# EAGLE library part RB1-125BAG1A (library Connectors)
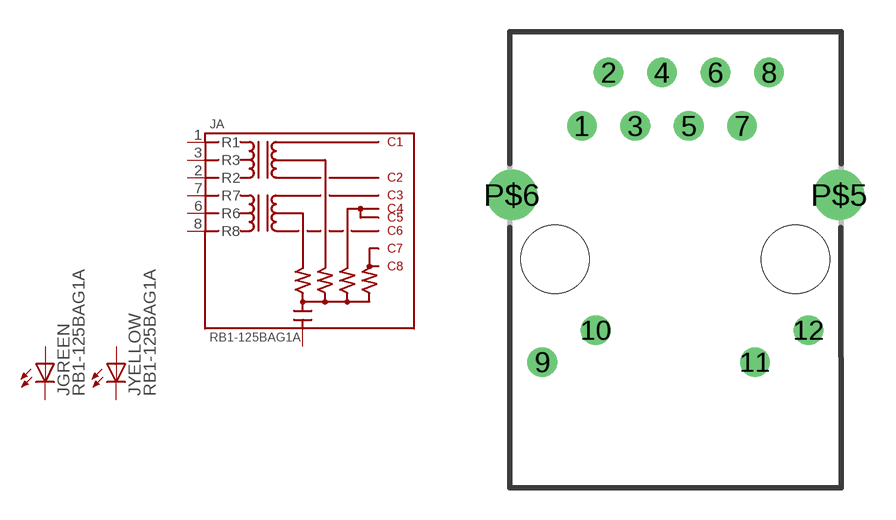
[diagram p3: symbol with the pads of ETHERNET; footprint ETHERNET]

Designator prefix J; gates A=RB1-125BAG1A GREEN=LED YELLOW=LED

## RB1-125BAG1A  [ETHERNET]
1  A:R1
2  A:R2
3  A:R3
6  A:R6
7  A:R7
8  A:R8
9  GREEN:C  pas
10  GREEN:A  pas
11  YELLOW:C  pas
12  YELLOW:A  pas
P$5  A:S$1
P$6  A:S$1

## Footprint ETHERNET (pad centres in mm)
drill 0.9: 1 -4.445,6.37; 2 -3.175,8.91; 3 -1.905,6.37; 4 -0.635,8.91; 5 0.635,6.37; 6 1.905,8.91; 7 3.175,6.37; 8 4.445,8.91; 9 -6.325,-4.87; 10 -3.785,-3.35; 11 3.785,-4.87; 12 6.325,-3.35
drill 1.6: P$5 7.775,3.08; P$6 -7.775,3.08
hole 3.25 at 5.715,0.03
hole 3.25 at -5.715,0.03